# EAGLE library part JDR08 (library hm-11)
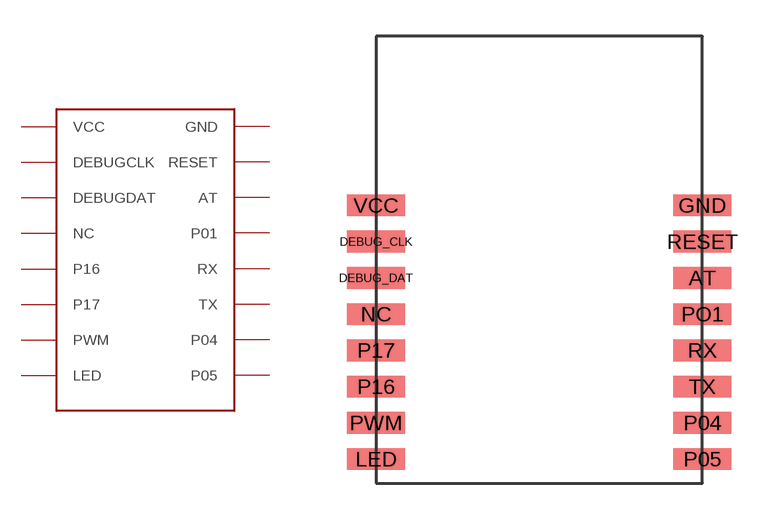
[diagram p1: symbol with the pads of JDC08; footprint JDC08]

Designator prefix -

## JDR08  [JDC08]
AT  AT
DEBUG_CLK  DEBUGCLK
DEBUG_DAT  DEBUGDAT
GND  GND
LED  LED
NC  NC
P04  P04
P05  P05
P16  P16
P17  P17
PO1  P01
PWM  PWM
RESET  RESET
RX  RX
TX  TX
VCC  VCC

## Footprint JDC08 (pad centres in mm)
smd 2.4 x 0.9: AT 6.5,0.46; DEBUG_CLK -7,1.96; DEBUG_DAT -7,0.46; GND 6.5,3.46; LED -7,-7.04; NC -7,-1.04; P04 6.5,-5.54; P05 6.5,-7.04; P16 -7,-4.04; P17 -7,-2.54; PO1 6.5,-1.04; PWM -7,-5.54; RESET 6.5,1.96; RX 6.5,-2.54; TX 6.5,-4.04; VCC -7,3.46